# EAGLE library part LTC3251 (library PowerProducts)
500mA High Efficiency, Low Noise, Inductorless Step-Down DC/DC Converters
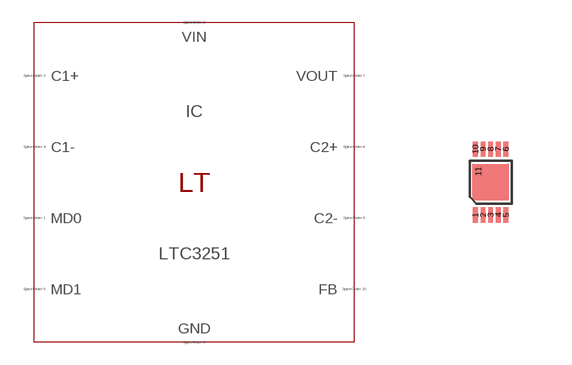
[diagram p154: symbol with the pads of MSOP10(MSE); footprint MSOP10(MSE)]

Designator prefix IC

## LTC3251 (SPICEMODEL: LTC3251.sub; SPICEPREFIX: X; VALUE2: LTC3251)  [MSOP10(MSE)]
1  MD0  pas
2  VIN  pas
3  C1+  pas
4  C1-  pas
5  GND  pas
6  C2-  pas
7  VOUT  pas
8  C2+  pas
9  MD1  pas
10  FB  pas
11  GND  pas

## Footprint MSOP10(MSE) (pad centres in mm)
Package generated from: MSOP10(MSE).asc (!PADS-POWERPCB-V9.3-BASIC! DESIGN DATABASE ASCII FILE 1.0) with :import-pads-powerpcb-v5.ulp Version 1.0.1 at 04.10.2012 14:11:19
smd 0.116 x 0.387: 1 -0.381,-0.823; 2 -0.191,-0.823; 3 0,-0.823; 4 0.191,-0.823; 5 0.381,-0.823; 6 0.381,0.823; 7 0.191,0.823; 8 0,0.823; 9 -0.191,0.823; 10 -0.381,0.823
smd 0 x 0.097: 11 -0.31,0.271